# Altium schematic symbol library LTR-301.SchLib: 1 symbol
Pins are listed as number, name and electrical type; pins without a type are passive.

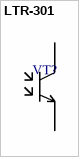
[diagram p0: symbol LTR-301]

## LTR-301
designator VT?
pins: 1, 2